# Altium footprint library Crystals.PcbLib: 4 footprints
Each footprint in its own frame and in the unit in brackets; x right, y up, seen from the top. Pads: shape width x height; smd on the part's side, far side on the other; paste and mask are expansions set on the pad; w line width, h text height; cw(c..) or ccw(c..) is an arc to the next point about the centre after c.
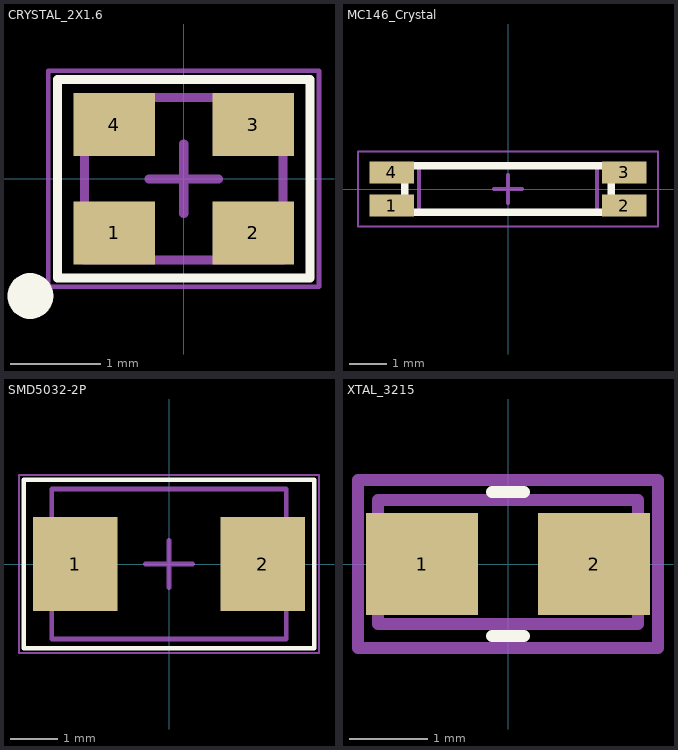
[diagram p0: the footprints below, top view; thin cyan lines are the x and y axes]

## CRYSTAL_2X1.6 [mm]
pads (4):
  rect 0.9x0.7 smd: 1(-0.77,-0.6) 2(0.77,-0.6) 3(0.77,0.6) 4(-0.77,0.6)
Top Overlay:
  circle w0.254: c-1.7,-1.3 r0.127
  lines w0.1: -1.4,-1.1 -1.4,1.1 -0.964,1.1 0.751,1.1 1.4,1.1 1.4,-1.1 -1.4,-1.1
Mechanical 13:
  lines w0.1: -1.1,-0.9 -1.1,0.9 1.1,0.9 1.1,-0.9 -1.1,-0.9
Mechanical 15:
  lines w0.05: -1.5,-1.2 -1.5,1.2 1.5,1.2 1.5,-1.2 -1.5,-1.2
  lines w0.1: -0.385,0 0.385,0 ; 0,-0.385 0,0.385
3D body: height 1.3, standoff 0, extent -1.1,-0.9 1.1,0.9

## MC146_Crystal [mm]
height 0.7
pads (4):
  rect 1.2x0.6 smd: 1(-3.15,-0.45) 2(3.15,-0.45) 3(3.15,0.45) 4(-3.15,0.45)
Top Overlay:
  lines w0.2: -0.635,0.635 -0.381,0.635 ; -2.794,-0.635 2.794,-0.635 2.794,0.635 -2.794,0.635 -2.794,-0.635
Mechanical 13:
  lines w0.1: -2.413,-0.635 -2.413,0.635 2.413,0.635 2.413,-0.635 -2.413,-0.635
Mechanical 15:
  lines w0.05: -4.064,-1.016 -4.064,1.016 4.064,1.016 4.064,-1.016 -4.064,-1.016
  lines w0.1: -0.385,0 0.385,0 ; 0,-0.385 0,0.385
3D body: height 1.3, standoff 0, extent -2.794,-0.635 2.794,0.635

## SMD5032-2P [mm]
height 2
pads (2):
  rect 1.8x2 smd: 1(-2,0) 2(2,0)
Top Overlay:
  lines w0.1: -3.1,-1.8 -3.1,1.8 3.1,1.8 3.1,-1.8 -3.1,-1.8
Mechanical 13:
  lines w0.1: -2.5,-1.6 2.5,-1.6 2.5,1.6 -2.5,1.6 -2.5,-1.6
Mechanical 15:
  lines w0.05: -3.2,-1.9 3.2,-1.9 3.2,1.9 -3.2,1.9 -3.2,-1.9
  lines w0.1: -0.5,0 0.5,0 ; 0,-0.5 0,0.5
3D body: height 2, standoff 0, extent -2.5,-1.6 2.5,1.6

## XTAL_3215 [mil]
pads (2):
  rect 56x51 smd: 1(-43,0) 2(43,0)
Top Overlay:
  lines w6: -8,-36 8,-36 ; -8,36 8,36
Mechanical 4:
  lines w6: -75,-42 -75,42 ; -75,-42 -75,42 ; -75,-42 75,-42 75,42 -75,42 ; -65,-30 -65,32 65,32 65,-30 -65,-30
3D body: height 51.18, standoff 0, extent -12.5,-27.5 12.5,27.5
3D body: height 51.18, standoff 0, extent -70,-32.5 70,-27.5
3D body: height 51.18, standoff 0, extent -70,27.5 70,32.5